# Altium schematic symbol library Schlib_Fairchild_Semiconductor.SchLib: 6 symbols
Pins are listed as number, name and electrical type; pins without a type are passive.

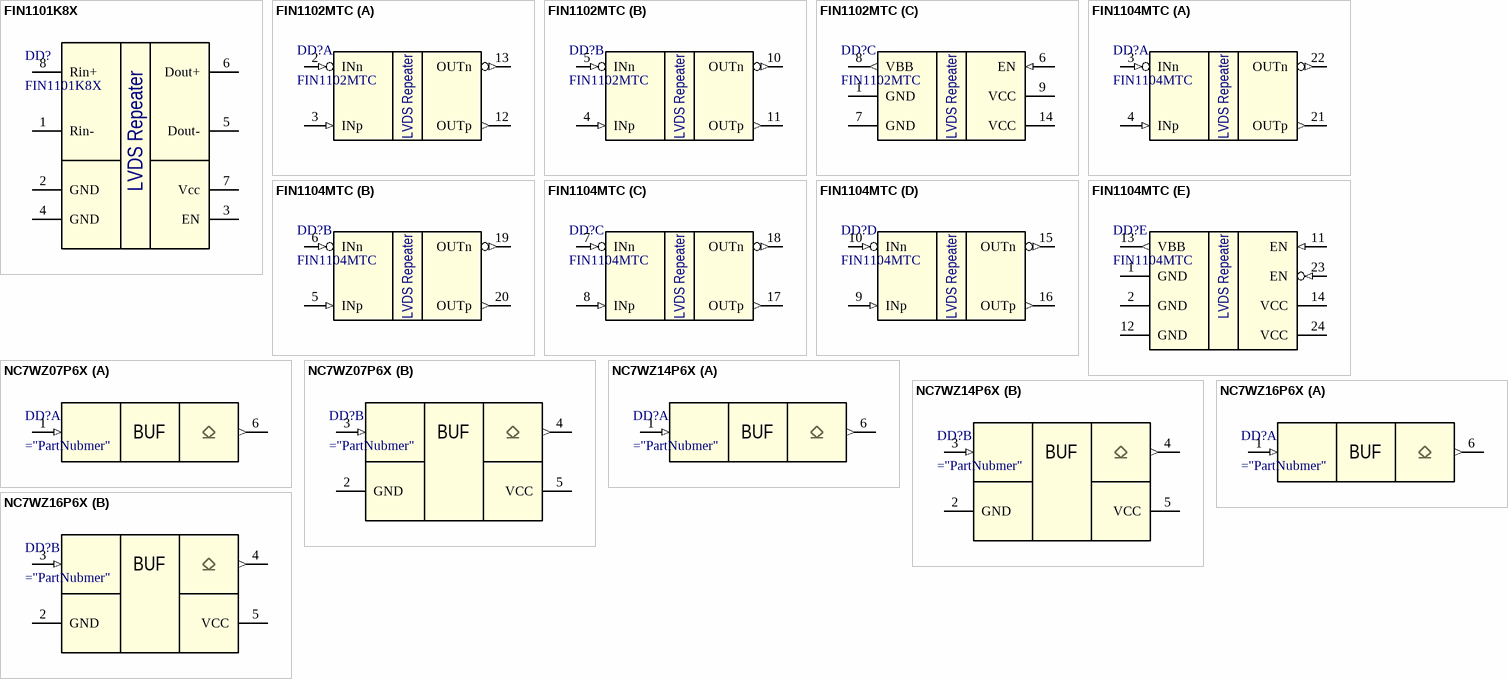
[diagram p0: symbols FIN1101K8X to NC7WZ16P6X]

## FIN1101K8X
designator DD?
High speed 1xLVDS repeater; Manufacturer: Fairchild Semiconductor; Part Nubmer: FIN1101K8X
footprint US8
pins: 1 Rin-, 2 GND, 3 EN, 4 GND, 5 Dout-, 6 Dout+, 7 Vcc, 8 Rin+
text: LVDS Repeater

## FIN1102MTC
designator DD?
High speed 2xLVDS repeater; Manufacturer: Fairchild Semiconductor; Package: TSSOP14; Part Nubmer: FIN1102MTC
footprint TSSOP-14 (TSOP, 20-Leads, Body 6.50x4.40mm, Pitch 0.65mm, IPC Medium Density)
part A pins: 2 INn (in), 3 INp (in), 12 OUTp (out), 13 OUTn (out)
part B pins: 4 INp (in), 5 INn (in), 10 OUTn (out), 11 OUTp (out)
part C pins: 1 GND (power), 6 EN (in), 7 GND (power), 8 VBB (out), 9 VCC (power), 14 VCC (power)
part A text: LVDS Repeater
part B text: LVDS Repeater
part C text: LVDS Repeater

## FIN1104MTC
designator DD?
High speed 4xLVDS repeater; Manufacturer: Fairchild Semiconductor; Package: TSSOP24; Part Nubmer: FIN1104MTC
part A pins: 3 INn (in), 4 INp (in), 21 OUTp (out), 22 OUTn (out)
part B pins: 5 INp (in), 6 INn (in), 19 OUTn (out), 20 OUTp (out)
part C pins: 7 INn (in), 8 INp (in), 17 OUTp (out), 18 OUTn (out)
part D pins: 9 INp (in), 10 INn (in), 15 OUTn (out), 16 OUTp (out)
part E pins: 1 GND (power), 2 GND (power), 11 EN (in), 12 GND (power), 13 VBB (out), 14 VCC (power), 23 EN (in), 24 VCC (power)
part A text: LVDS Repeater
part B text: LVDS Repeater
part C text: LVDS Repeater
part D text: LVDS Repeater
part E text: LVDS Repeater

## NC7WZ07P6X
designator DD?
Dual buffer with open-drain output; PartNumber: NC7WZ07P6X; Manufacturer: Fairchild Semiconductor; Package: SC70-6
footprint SC70-6
part A pins: 1 IN (in), 6 OUT (out)
part B pins: 2 GND (power), 3 IN (in), 4 OUT (out), 5 VCC (power)
part A text: BUF
part B text: BUF

## NC7WZ14P6X
designator DD?
Dual buffer with schmitt trigger input; PartNumber: NC7WZ14P6X; Manufacturer: Fairchild Semiconductor; Package: SC70-6
footprint SC70-6
part A pins: 1 IN (in), 6 OUT (out)
part B pins: 2 GND (power), 3 IN (in), 4 OUT (out), 5 VCC (power)
part A text: BUF
part B text: BUF

## NC7WZ16P6X
designator DD?
Dual buffer; PartNumber: NC7WZ16P6X; Manufacturer: Fairchild Semiconductor; Package: SC70-6
footprint SC70-6
part A pins: 1 IN (in), 6 OUT (out)
part B pins: 2 GND (power), 3 IN (in), 4 OUT (out), 5 VCC (power)
part A text: BUF
part B text: BUF